# Altium schematic symbol library PTS645 - Button.Schlib: 1 symbol
Pins are listed as number, name and electrical type; pins without a type are passive.

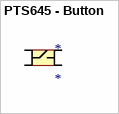
[diagram p0: symbol PTS645 - Button]

## PTS645 - Button
designator *
pins: 1, 2, 3, 4